# Altium footprint library RPSLib_Antenna.PcbLib: 23 footprints (part 1 of 2)
Each footprint in its own frame and in the unit in brackets; x right, y up, seen from the top. Pads: shape width x height; smd on the part's side, far side on the other; paste and mask are expansions set on the pad; w line width, h text height; cw(c..) or ccw(c..) is an arc to the next point about the centre after c.
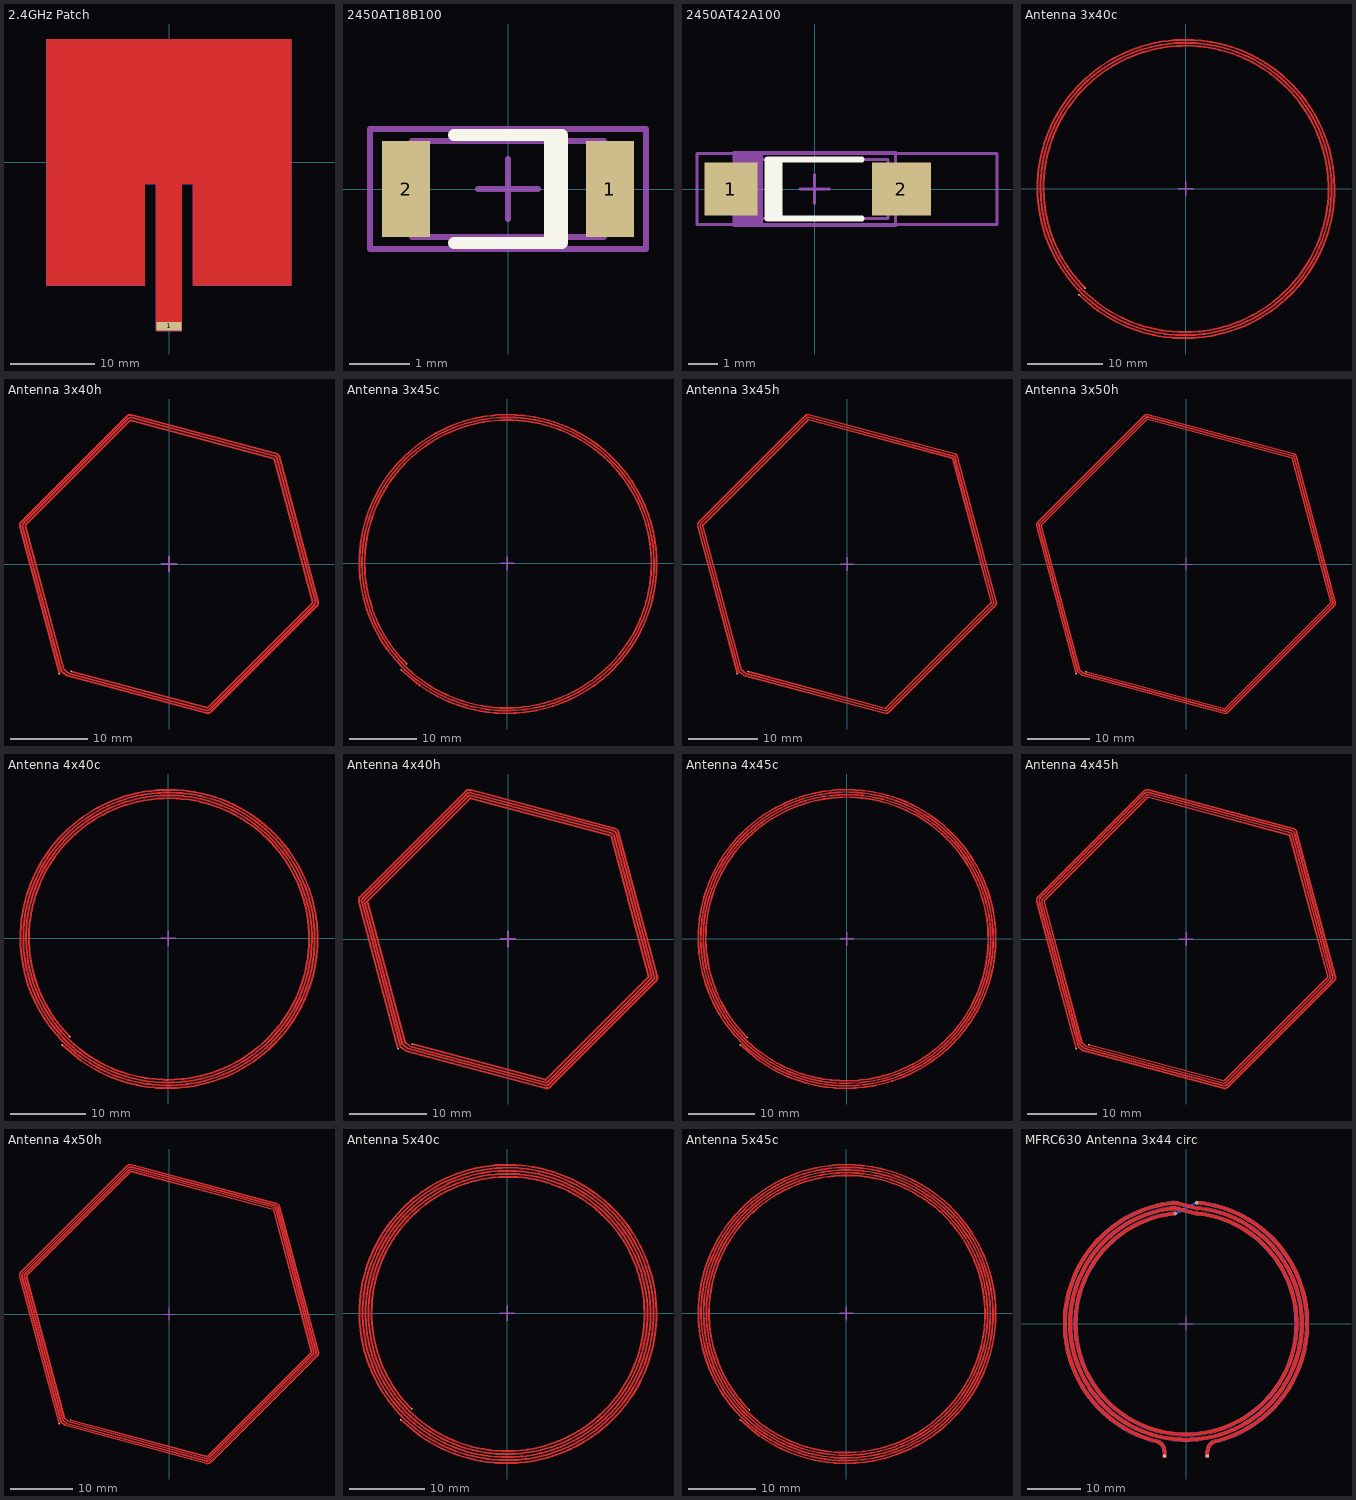
[diagram p0: the footprints below, top view; thin cyan lines are the x and y axes]

## 2.4GHz Patch [mm]
pads (1):
  rect 3x1 smd mask+0.07: 1(0,-19.5)
Top Layer:
  region: -14.5,-14.6 -14.5,14.6 14.5,14.6 14.5,-14.6 2.9,-14.6 2.9,-2.6 1.5,-2.6 1.5,-20 -1.5,-20 -1.5,-2.6 -2.9,-2.6 -2.9,-14.6
Mechanical 1:
  lines w0.05: -14.5,-14.6 -14.5,14.6 14.5,14.6 14.5,-14.6 2.9,-14.6 2.9,-2.6 1.5,-2.6 1.5,-20 -1.5,-20 -1.5,-2.6 -2.9,-2.6 -2.9,-14.6 -14.5,-14.6

## 2450AT18B100 [mm] "2450 MHz Chip Antenna"
height 1.3
pads (2):
  rect 0.8x1.6 smd mask+0.07: 1(1.7,0) 2(-1.7,0)
Top Overlay:
  lines w0.2: -0.9,-0.9 0.8,-0.9 ; -0.9,0.9 0.8,0.9 ; 0.7,-0.9 0.7,0.9 ; 0.8,-0.9 0.9,-0.9 0.9,0.9 0.8,0.9 ; 0.8,-0.9 0.8,0.9
Mechanical 13:
  lines w0.1: -1.6,-0.8 -1.6,0.8 1.6,0.8 1.6,-0.8 -1.6,-0.8
Mechanical 15:
  lines w0.1: -0.5,0 0.5,0 ; 0,-0.5 0,0.5 ; -2.3,-1 -2.3,1 2.3,1 2.3,-1 -2.3,-1
3D body "2450AT18B100.stp": height 1.3, standoff 0, extent -1.6,-0.8 1.6,0.8

## 2450AT42A100 [mm] "2450 MHz Chip antenna"
height 1.3
pads (2):
  rect 1.8x1.8 smd mask+0.07: 1(-2.85,0)
  rect 2x1.8 smd mask+0.07: 2(2.95,0)
Top Overlay:
  lines w0.2: -1.5,-1 -1.5,1 ; -1.4,-1 -1.4,1 ; -1.3,-1 -1.3,1 ; -1.2,-1 -1.2,1 ; 1.6,-1 -1.6,-1 -1.6,1 ; 1.6,1 -1.6,1 ; -1.6,1 -1.6,1
Mechanical 1:
  rectangle: -2.75,-1.25 -1.75,1.25
  lines w0.1: -2.75,-1.25 2.75,-1.25 2.75,1.25 -2.75,1.25 -2.75,-1.25
  text ".Designator" at -1.126,-0.113 h0.5
Mechanical 13:
  lines w0.1: -2.5,-1 2.5,-1 2.5,1 -2.5,1 -2.5,-1
Mechanical 15:
  lines w0.1: -0.5,0 0.5,0 ; 0,-0.5 0,0.5 ; -4,-1.2 6.2,-1.2 6.2,1.2 -4,1.2 -4,-1.2
3D body "2450AT42A100.stp": height 1.1, standoff 0, extent -2.5,-1 2.5,1

## Antenna 3x40c [mm] "Антенна спиральная 3 витка, 40 мм"
pads (2):
  rect 0.2x0.2 smd mask+0.07: 1(-14.225,-14.063) 2(-13.383,-13.203)
Top Layer:
  drawing of 1 lines, arcs and shapes, not listed
Mechanical 15:
  lines w0.2: -1,0 1,0 ; 0,-1 0,1

## Antenna 3x40h [mm] "Антенна гексагональная 3 витка, 40 мм"
pads (2):
  rect 0.2x0.2 smd mask+0.07: 1(-14.142,-14.142) 2(-12.611,-13.835)
Top Layer:
  region: 249 vertices and 0 holes, not listed, extent -19.349,-19.349 19.349,19.349
Mechanical 15:
  lines w0.2: -1,0 1,0 ; 0,-1 0,1

## Antenna 3x45c [mm] "Антенна спиральная 3 витка, 45 мм"
pads (2):
  rect 0.2x0.2 smd mask+0.07: 1(-15.91,-15.91) 2(-15.061,-15.061)
Top Layer:
  drawing of 1 lines, arcs and shapes, not listed
Mechanical 15:
  lines w0.2: -1,0 1,0 ; 0,-1 0,1

## Antenna 3x45h [mm] "Антенна гексагональная 3 витка, 45 мм"
pads (2):
  rect 0.2x0.2 smd mask+0.07: 1(-15.91,-15.91) 2(-14.378,-15.603)
Top Layer:
  region: 249 vertices and 0 holes, not listed, extent -21.764,-21.764 21.764,21.764
Mechanical 15:
  lines w0.2: -1,0 1,0 ; 0,-1 0,1

## Antenna 3x50h [mm] "Антенна гексагональная 3 витка, 50 мм"
pads (2):
  rect 0.2x0.2 smd mask+0.07: 1(-17.678,-17.678) 2(-16.146,-17.371)
Top Layer:
  region: 250 vertices and 0 holes, not listed, extent -24.179,-24.179 24.179,24.179
Mechanical 15:
  lines w0.2: -1,0 1,0 ; 0,-1 0,1

## Antenna 4x40c [mm] "Антенна спиральная 4 витка, 40 мм"
pads (2):
  rect 0.2x0.2 smd mask+0.07: 1(-14.142,-14.142) 2(-13.081,-13.081)
Top Layer:
  drawing of 1 lines, arcs and shapes, not listed
Mechanical 15:
  lines w0.2: -1,0 1,0 ; 0,-1 0,1

## Antenna 4x40h [mm] "Антенна гексагональная 4 витка, 40 мм"
pads (2):
  rect 0.2x0.2 smd mask+0.07: 1(-14.142,-14.142) 2(-12.328,-13.552)
Top Layer:
  region: 325 vertices and 0 holes, not listed, extent -19.326,-19.326 19.326,19.326
Mechanical 15:
  lines w0.2: -1,0 1,0 ; 0,-1 0,1

## Antenna 4x45c [mm] "Антенна спиральная 4 витка, 45 мм"
pads (2):
  rect 0.2x0.2 smd mask+0.07: 1(-15.994,-15.825) 2(-14.933,-14.765)
Top Layer:
  drawing of 1 lines, arcs and shapes, not listed
Mechanical 15:
  lines w0.2: -1,0 1,0 ; 0,-1 0,1

## Antenna 4x45h [mm] "Антенна гексагональная 4 витка, 45 мм"
pads (2):
  rect 0.2x0.2 smd mask+0.07: 1(-15.91,-15.91) 2(-14.095,-15.32)
Top Layer:
  region: 327 vertices and 0 holes, not listed, extent -21.741,-21.741 21.741,21.741
Mechanical 15:
  lines w0.2: -1,0 1,0 ; 0,-1 0,1

## Antenna 4x50h [mm] "Антенна гексагональная 4 витка, 50 мм"
pads (2):
  rect 0.2x0.2 smd mask+0.07: 1(-17.678,-17.678) 2(-15.863,-17.088)
Top Layer:
  region: 319 vertices and 0 holes, not listed, extent -24.156,-24.156 24.156,24.156
Mechanical 15:
  lines w0.2: -1,0 1,0 ; 0,-1 0,1

## Antenna 5x40c [mm] "Антенна спиральная 5 витков, 40 мм"
pads (2):
  rect 0.2x0.2 smd mask+0.07: 1(-14.142,-14.142) 2(-12.728,-12.728)
Top Layer:
  drawing of 1 lines, arcs and shapes, not listed
Mechanical 15:
  lines w0.2: -1,0 1,0 ; 0,-1 0,1

## Antenna 5x45c [mm] "Антенна спиральная 5 витков, 45 мм"
pads (2):
  rect 0.2x0.2 smd mask+0.07: 1(-15.91,-15.91) 2(-14.496,-14.496)
Top Layer:
  drawing of 1 lines, arcs and shapes, not listed
Mechanical 15:
  lines w0.2: -1,0 1,0 ; 0,-1 0,1

## MFRC630 Antenna 3x44 circ [mm] "Антенна 3 витка 44 мм"
pads (2):
  rect 0.6x0.6 smd mask+0.07: 1(-4,-24.75) 2(4,-24.75)
via -2,20.603 diameter 0.6 hole 0.3
via 2,22.612 diameter 0.6 hole 0.3
Top Layer:
  region: 578 vertices and 0 holes, not listed, extent -23,-25 22,22.864
  region: 3.7,-25 3.7,-23.96 3.7,-23.769 3.763,-23.393 3.887,-23.031 4.069,-22.696 4.304,-22.395 4.586,-22.136 4.906,-21.928 5.256,-21.775 5.441,-21.729 6.158,-21.537 7.571,-21.082 8.95,-20.534 10.291,-19.896 11.586,-19.171 12.83,-18.362 14.018,-17.472 15.144,-16.505 16.204,-15.466 17.192,-14.359 18.105,-13.189 18.939,-11.961 19.69,-10.681 20.354,-9.353 20.928,-7.985 21.411,-6.582 21.8,-5.149 22.093,-3.694 22.289,-2.223 22.388,-0.742 22.4,0 22.389,0.692 22.304,2.073 22.133,3.446 21.878,4.805 21.54,6.147 21.12,7.465 20.618,8.755 20.039,10.011 19.382,11.229 18.652,12.404 17.851,13.532 16.981,14.608 16.047,15.628 15.052,16.589 13.999,17.487 12.893,18.318 11.737,19.079 10.537,19.767 9.297,20.38 8.021,20.915 6.714,21.37 5.382,21.744 4.03,22.035 2.662,22.241 1.974,22.313 2.026,22.911 2.734,22.848 4.14,22.636 5.529,22.337 6.898,21.953 8.24,21.485 9.55,20.936 10.825,20.306 12.057,19.599 13.244,18.817 14.381,17.964 15.462,17.042 16.485,16.055 17.445,15.006 18.338,13.901 19.161,12.742 19.911,11.535 20.585,10.284 21.181,8.993 21.696,7.669 22.128,6.315 22.475,4.937 22.737,3.54 22.912,2.129 23,0.711 23,0 23,-0.762 22.899,-2.284 22.698,-3.795 22.396,-5.29 21.997,-6.762 21.501,-8.203 20.91,-9.609 20.228,-10.973 19.457,-12.288 18.601,-13.55 17.662,-14.752 16.647,-15.889 15.558,-16.957 14.401,-17.95 13.181,-18.864 11.902,-19.696 10.572,-20.441 9.195,-21.096 7.778,-21.658 6.327,-22.126 5.587,-22.311 5.452,-22.351 5.194,-22.463 4.958,-22.617 4.751,-22.807 4.578,-23.029 4.444,-23.276 4.352,-23.542 4.306,-23.82 4.3,-23.96 4.3,-25
Bottom Layer:
  lines w0.6: -2,20.603 2,22.612
Mechanical 1:
  lines w0.1: -23,0 ccw(c0,0) -5.587,-22.311 cw(c-6,-23.96) -4.3,-23.96 -4.3,-25 -3.7,-25 -3.7,-23.96 ccw(c-6,-23.96) -5.441,-21.729 cw(c0,0) -22.4,0 cw(c0,0) -2.739,22.232 cw(c-2.287,18.56) -1.386,22.148 -0.073,21.819 1.641,21.388 ccw(c2.688,25.559) 2.238,21.283 cw(c0,0) 21.4,0 cw(c0,0) 0,-21.4 cw(c0,0) -21.4,0 cw(c0,0) -2.753,21.222 cw(c-2.277,17.553) -1.376,21.142 -0.073,20.814 1.65,20.382 ccw(c2.697,24.552) 2.228,20.278 cw(c0,0) 20.4,0 cw(c0,0) 0,-20.4 cw(c0,0) -20.4,0 cw(c0,0) -1.971,20.305 -2.029,20.902 ccw(c0,0) -21,0 ccw(c0,0) 0,-21 ccw(c0,0) 21,0 ccw(c0,0) 2.293,20.874 cw(c2.697,24.552) 1.796,20.964 0.073,21.396 -1.23,21.723 ccw(c-2.277,17.553) -2.83,21.817 ccw(c0,0) -22,0 ccw(c0,0) 0,-22 ccw(c0,0) 22,0 ccw(c0,0) 2.301,21.879 cw(c2.688,25.559) 1.787,21.97 0.073,22.401 -1.24,22.73 ccw(c-2.287,18.56) -2.813,22.827 ccw(c0,0) -23,0 ; 1.974,22.313 cw(c0,0) 22.4,0 cw(c0,0) 5.441,-21.729 ccw(c6,-23.96) 3.7,-23.96 3.7,-25 4.3,-25 4.3,-23.96 cw(c6,-23.96) 5.587,-22.311 ccw(c0,0) 23,0 ccw(c0,0) 2.026,22.911 1.974,22.313
Mechanical 15:
  lines w0.2: -1.25,0 1.25,0 ; 0,-1.25 0,1.25